# EAGLE library part ISL85005 (library thanics_robotics)
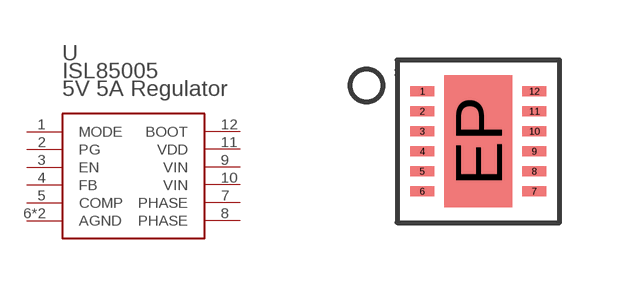
[diagram p20: symbol with the pads of 12LD4X3DFN; footprint 12LD4X3DFN]

Designator prefix -

## ISL85005  [12LD4X3DFN]
1  MODE
2  PG
3  EN
4  FB
5  COMP
6  AGND
7  PHASE
8  PHASE
9  VIN
10  VIN
11  VDD
12  BOOT
EP  AGND

## Footprint 12LD4X3DFN (pad centres in mm)
smd 0.6 x 0.25: 1 -1.4,1.25; 2 -1.4,0.75; 3 -1.4,0.25; 4 -1.4,-0.25; 5 -1.4,-0.75; 6 -1.4,-1.25; 7 1.4,-1.25; 8 1.4,-0.75; 9 1.4,-0.25; 10 1.4,0.25; 11 1.4,0.75; 12 1.4,1.25
smd 1.7 x 3.3: EP 0,0